# Altium footprint library SnapEDApcb.PcbLib: 1 footprints
Each footprint in its own frame and in the unit in brackets; x right, y up, seen from the top. Pads: shape width x height; smd on the part's side, far side on the other; paste and mask are expansions set on the pad; w line width, h text height; cw(c..) or ccw(c..) is an arc to the next point about the centre after c.
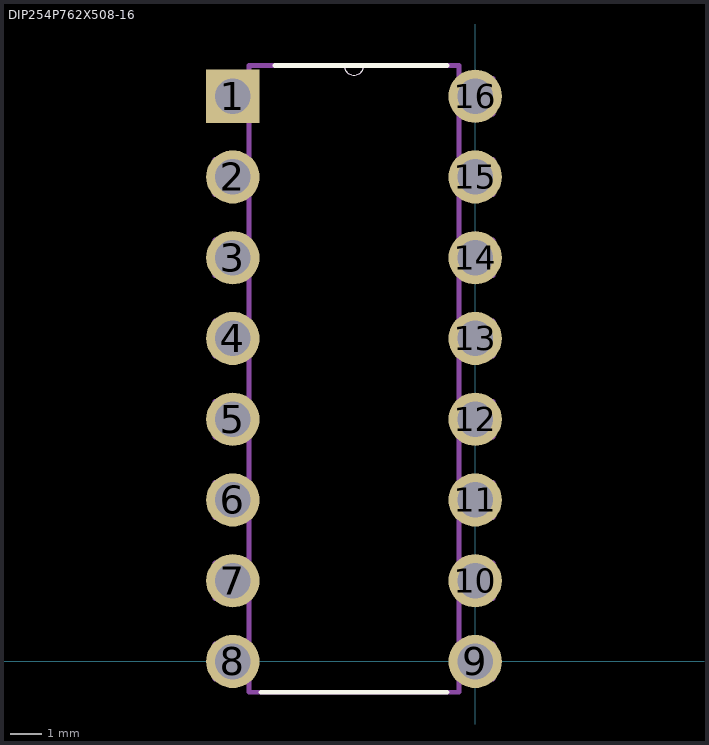
[diagram p0: the footprint, top view; thin cyan lines are the x and y axes]

## DIP254P762X508-16 [mil]
pads (16):
  rect 66x66 hole 44: 1(-300,700)
  round 66 hole 44: 2(-300,600) 3(-300,500) 4(-300,400) 5(-300,300) 6(-300,200) 7(-300,100) 8(-300,0) 9(0,0) 10(0,100) 11(0,200) 12(0,300) 13(0,400) 14(0,500) 15(0,600) 16(0,700)
Top Overlay:
  lines w0: -162,738 ccw(c-150,738) -138,738
  lines w6: -265,-38 -35,-38 ; -248,738 -162,738 -138,738 -35,738
Mechanical 13:
  lines w0: -162,738 ccw(c-150,738) -138,738
  lines w6: -322,-22 -280,-22 -280,22 -322,22 -322,-22 ; -322,78 -280,78 -280,122 -322,122 -322,78 ; -322,178 -280,178 -280,222 -322,222 -322,178 ; -322,278 -280,278 -280,322 -322,322 -322,278 ; -322,378 -280,378 -280,422 -322,422 -322,378 ; -322,478 -280,478 -280,522 -322,522 -322,478 ; -322,578 -280,578 -280,622 -322,622 -322,578 ; -322,678 -280,678 -280,722 -322,722 -322,678 ; -280,-38 -280,738 -162,738 -138,738 -20,738 -20,-38 -280,-38 ; -20,-22 22,-22 22,22 -20,22 -20,-22 ; -20,78 22,78 22,122 -20,122 -20,78 ; -20,178 22,178 22,222 -20,222 -20,178 ; -20,278 22,278 22,322 -20,322 -20,278 ; -20,378 22,378 22,422 -20,422 -20,378 ; -20,478 22,478 22,522 -20,522 -20,478 ; -20,578 22,578 22,622 -20,622 -20,578 ; -20,678 22,678 22,722 -20,722 -20,678